# Altium footprint library footprintLIB.PcbLib: 52 footprints (part 1 of 4)
Each footprint in its own frame and in the unit in brackets; x right, y up, seen from the top. Pads: shape width x height; smd on the part's side, far side on the other; paste and mask are expansions set on the pad; w line width, h text height; cw(c..) or ccw(c..) is an arc to the next point about the centre after c.
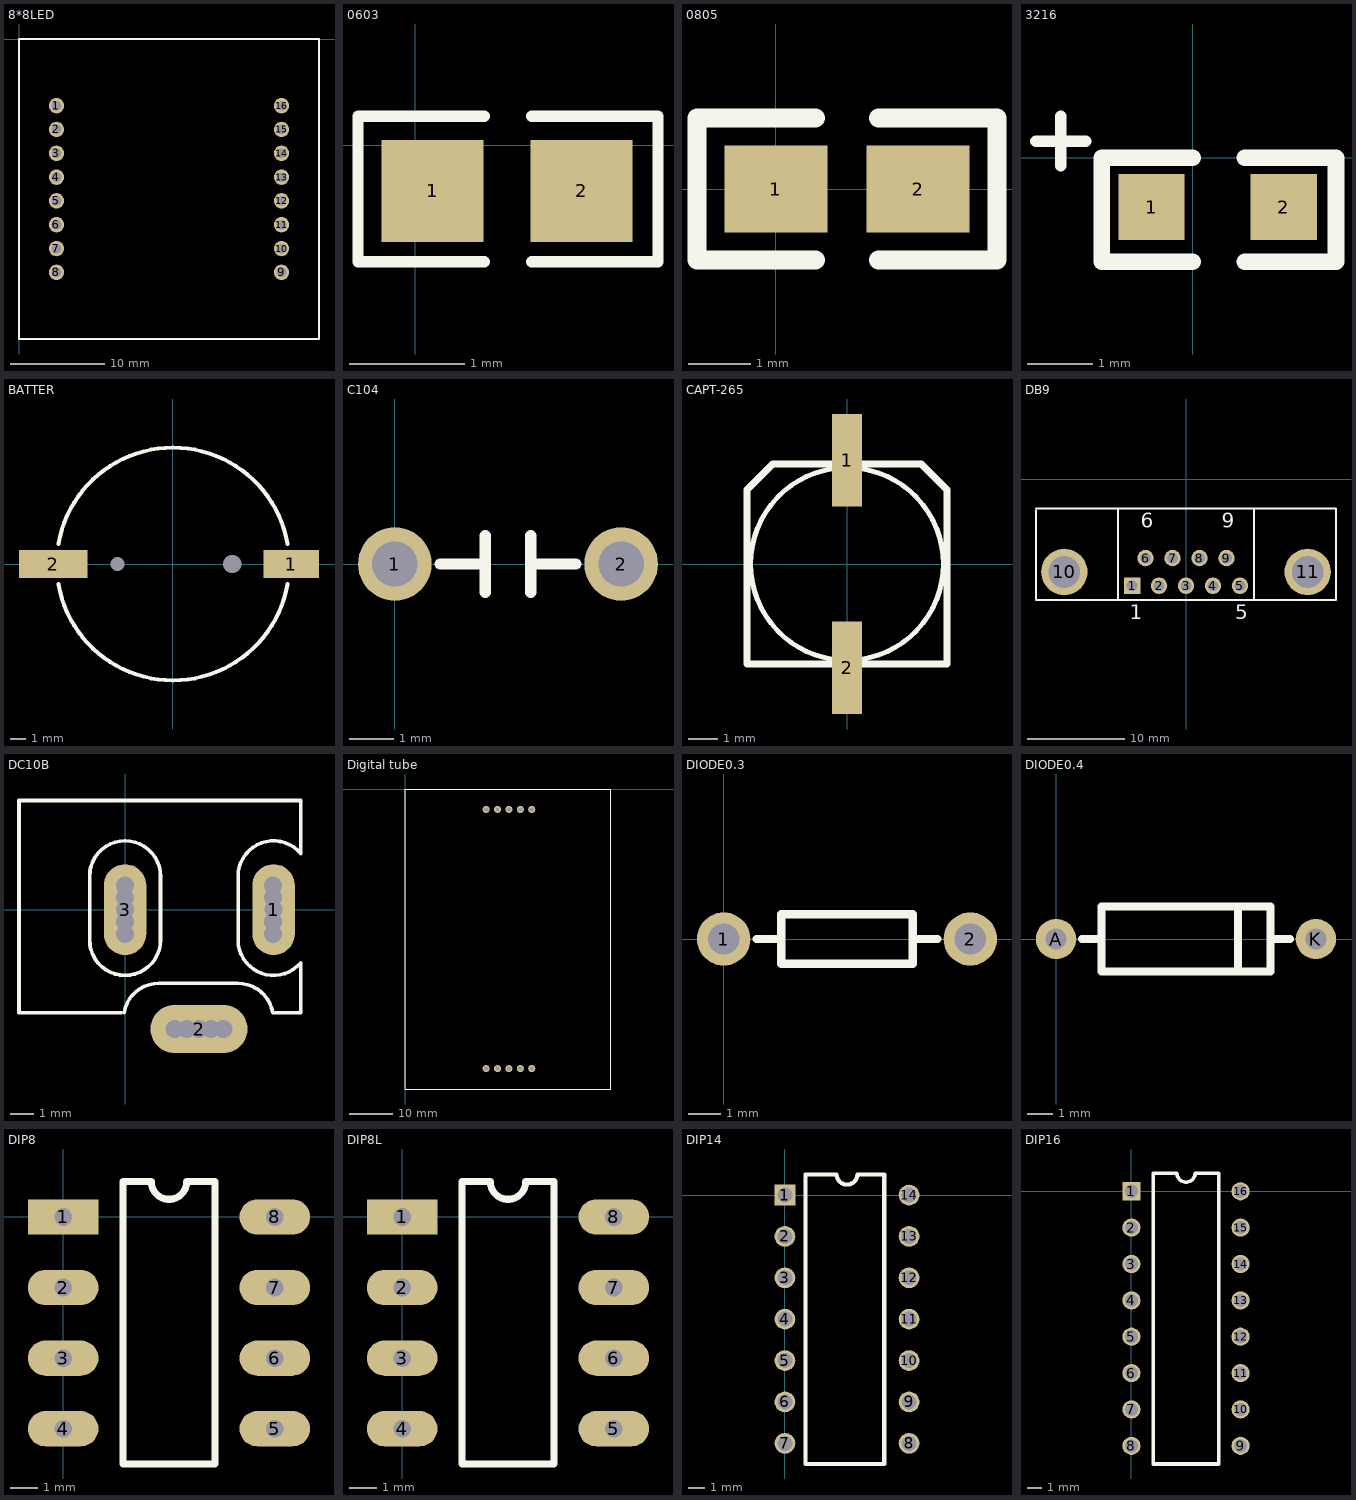
[diagram p0: the footprints below, top view; thin cyan lines are the x and y axes]

## 8*8LED [mil]
pads (16):
  round 65 hole 40: 1(157.48,-279.92) 2(157.48,-379.92) 3(157.48,-479.92) 4(157.48,-579.92) 5(157.48,-679.92) 6(157.48,-779.92) 7(157.48,-879.92) 8(157.48,-979.92) 9(1102.36,-979.92) 10(1102.36,-879.92) 11(1102.36,-779.92) 12(1102.36,-679.92) 13(1102.36,-579.92) 14(1102.36,-479.92) 15(1102.36,-379.92) 16(1102.36,-279.92)
Top Overlay:
  lines w10: 0,-1259.84 1259.84,-1259.84 1259.84,0 0,0 0,-1259.84

## 0603 [mm]
pads (2):
  rect 0.889x0.889 smd: 1(0.15,-0.4) 2(1.45,-0.4)
Top Overlay:
  lines w0.1: 0.6,-1.016 -0.5,-1.016 -0.5,0.25 0.6,0.25 ; 1.016,-1.016 2.116,-1.016 2.116,0.25 1.016,0.25

## 0805 [mil]
pads (2):
  rect 65x55 smd: 1(0,0) 2(90,0)
Top Overlay:
  lines w12: 25,-45 -50,-45 -50,45 25,45 ; 65,-45 140,-45 140,45 65,45

## 3216 [mil]
pads (2):
  rect 40x40 smd: 1(-25,-30) 2(55,-30)
Top Overlay:
  lines w7: -95,10 -65,10 ; -80,-5 -80,25
  lines w10: 0,-62.99 -55.12,-62.99 -55.12,0 0,0 ; 31.5,-62.99 86.61,-62.99 86.61,0 31.5,0

## BATTER [mm]
pads (4):
  rect 3.52x1.78 smd: 1(7.464,0)
  rect 4.32x1.78 smd: 2(-7.564,0)
  round 0 hole 0.9: ""(-3.5,0)
  round 0 hole 1.16: ""(3.75,0)
Top Overlay:
  lines w0.254: -7.238,-1.276 ccw(c0,0) 7.238,-1.276 ; -7.238,1.276 cw(c0,0) 7.238,1.276

## C104 [mil]
pads (2):
  round 65 hole 40: 1(0,0) 2(200,0)
Top Overlay:
  lines w10: 40,0 80,0 ; 80,-25 80,25 ; 120,-25 120,25 ; 120,0 160,0

## CAPT-265 [mil]
pads (2):
  rect 40x125 smd: 1(0,140) 2(0,-140)
Top Overlay:
  circle w6.69: c0,0 r130
  lines w10: -135,-135 135,-135 135,100 100,135 -100,135 -135,100 -135,-135

## DB9 [mm] "Connector; D Subminiature; 9 Position; Right Angle; Pitch 1.385 mm"
height 12.75
pads (11):
  rect 1.69x1.69 hole 1.09: 1(-5.54,-10.92)
  round 1.69 hole 1.09: 2(-2.77,-10.92) 3(0,-10.92) 4(2.77,-10.92) 5(5.54,-10.92) 6(-4.155,-8.08) 7(-1.385,-8.08) 8(1.385,-8.08) 9(4.155,-8.08)
  round 4.76 hole 3.26: 10(-12.495,-9.5) 11(12.495,-9.5)
Top Overlay:
  lines w0.2: -15.4,-3.175 -15.4,-12.4 15.4,-12.4 15.4,-3.048 ; -15.4,-3 15.4,-3 ; -7,-12.4 -7,-3 ; 7,-12.4 7,-3
  text "6" at -4.655,-4.975 h1.5
  text "9" at 3.655,-4.975 h1.5
  text "5" at 5.04,-14.375 h1.5
  text "1" at -5.79,-14.375 h1.5

## DC10B [mil]
pads (15):
  oval 70x150 hole 30: 1(245,0) 3(0,0)
  oval 160x80 hole 30: 2(122,-197)
  round 45 hole 30: ""(0,-40) ""(0,-20) ""(0,20) ""(0,40) ""(82.05,-196.85) ""(102.05,-196.85) ""(142.05,-196.85) ""(162.05,-196.85) ""(244.09,-40) ""(244.09,-20) ""(244.09,20) ""(244.09,40)
Top Overlay:
  lines w6: -6,-170 -175,-170 -175,180 290,180 289.83,92.62 ccw(c245,55) 186.48,55 186.48,-50 ccw(c245,-50) 289.83,-87.62 ; -1.63,-169.84 cw(c56,-180) 56,-121.48 186,-121.48 cw(c186,-180) 243.63,-169.84 ; 245,-170 290,-170 290,-90 ; -58.52,55 cw(c0,55) 58.52,55 ; -58.52,55 -58.52,55 ; -58.52,55 -58.52,-50 ccw(c0,-50) 58.52,-50 58.52,55 ; 58.52,55 58.52,55

## Digital tube [mil]
pads (10):
  round 65 hole 40: 1(740.94,-187.01) 2(845.28,-187.01) 3(949.61,-187.01) 4(1053.94,-187.01) 5(1158.27,-187.01) 6(1158.27,-2557.09) 7(1053.94,-2557.09) 8(949.61,-2557.09) 9(845.28,-2557.09) 10(740.94,-2557.09)
Top Overlay:
  lines w10: 0,-2744.09 1881.89,-2744.09 1881.89,0 0,0 0,-2744.09

## DIODE0.3 [mil] "www.ouravr.com"
pads (2):
  round 65 hole 38: 1(0,0) 2(300,0)
Top Overlay:
  lines w10: 40,0 70,0 ; 230,0 260,0 ; 70,0 70,30 230,30 230,-30 70,-30 70,0

## DIODE0.4 [mil]
pads (2):
  round 62 hole 32: A(0,0) K(400,0)
Top Overlay:
  lines w12: 40,0 70,0 ; 280,-50 280,50 ; 330,0 360,0 ; 70,-50 330,-50 330,50 70,50 70,-50

## DIP8 [mm]
pads (8):
  rect 2.54x1.27 hole 0.635: 1(0,0)
  oval 2.54x1.27 hole 0.635: 2(0,-2.54) 3(0,-5.08) 4(0,-7.62) 5(7.62,-7.62) 6(7.62,-5.08) 7(7.62,-2.54) 8(7.62,0)
Top Overlay:
  lines w0.254: 2.159,-8.89 5.461,-8.89 5.461,1.27 4.445,1.27 cw(c3.81,1.27) 3.175,1.27 2.159,1.27 2.159,-8.89

## DIP8L [mm]
pads (8):
  rect 2.54x1.27 hole 0.635: 1(0,0)
  oval 2.54x1.27 hole 0.635: 2(0,-2.54) 3(0,-5.08) 4(0,-7.62) 5(7.62,-7.62) 6(7.62,-5.08) 7(7.62,-2.54) 8(7.62,0)
Top Overlay:
  lines w0.254: 2.159,-8.89 2.159,1.27 3.175,1.27 ccw(c3.81,1.27) 4.445,1.27 5.461,1.27 5.461,-8.89 2.159,-8.89

## DIP14 [mil]
pads (14):
  rect 50x50 / inner rect 60x60 / far side rect 60x60 hole 36: 1(0,0)
  round 50 / inner round 60 / far side round 60 hole 36: 2(0,-100) 3(0,-200) 4(0,-300) 5(0,-400) 6(0,-500) 7(0,-600) 8(300,-600) 9(300,-500) 10(300,-400) 11(300,-300) 12(300,-200) 13(300,-100) 14(300,0)
Top Overlay:
  lines w10: 50,-650 50,50 125,50 ccw(c150,50) 175,50 240,50 240,-650 50,-650

## DIP16 [mil]
pads (16):
  rect 50x50 / inner rect 60x60 / far side rect 60x60 hole 36: 1(0,0)
  round 50 / inner round 60 / far side round 60 hole 36: 2(0,-100) 3(0,-200) 4(0,-300) 5(0,-400) 6(0,-500) 7(0,-600) 8(0,-700) 9(300,-700) 10(300,-600) 11(300,-500) 12(300,-400) 13(300,-300) 14(300,-200) 15(300,-100) 16(300,0)
Top Overlay:
  lines w10: 60,-750 60,50 125,50 ccw(c150,50) 175,50 240,50 240,-750 60,-750